# Altium schematic symbol library mq-135.SchLib: 1 symbol
Pins are listed as number, name and electrical type; pins without a type are passive.

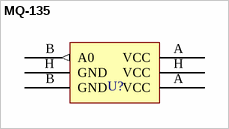
[diagram p0: symbol MQ-135]

## MQ-135
designator U?  (value not drawn)
pins: A VCC (power), A VCC (power), B A0 (out), B GND (power), H GND (power), H VCC (power)